# Altium schematic symbol library SJR-BTM875-E.SchLib: 1 symbol
Pins are listed as number, name and electrical type; pins without a type are passive.

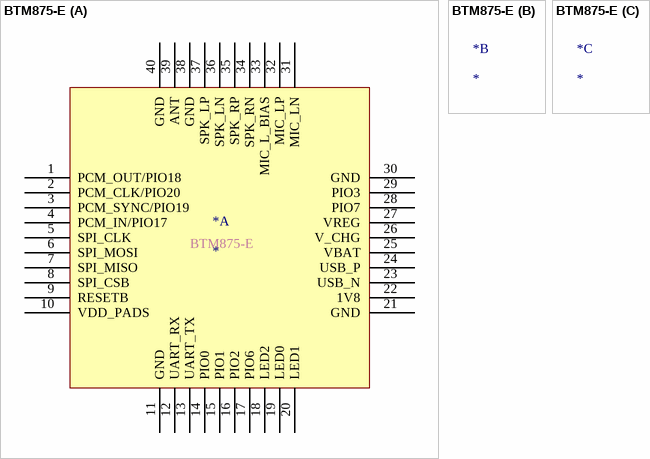
[diagram p0: symbol BTM875-E]

## BTM875-E
designator *
footprint LCCS100P1150X1150X200-40N (LCC, 40-Pins, Body 11.50x11.50mmx2.00mm, Pitch 1.00mm, IPC Medium Density)
part A pins: 1 PCM_OUT/PIO18, 2 PCM_CLK/PIO20, 3 PCM_SYNC/PIO19, 4 PCM_IN/PIO17, 5 SPI_CLK, 6 SPI_MOSI, 7 SPI_MISO, 8 SPI_CSB, 9 RESETB, 10 VDD_PADS, 11 GND, 12 UART_RX, 13 UART_TX, 14 PIO0, 15 PIO1, 16 PIO2, 17 PIO6, 18 LED2, 19 LED0, 20 LED1, 21 GND, 22 1V8, 23 USB_N, 24 USB_P, 25 VBAT, 26 V_CHG, 27 VREG, 28 PIO7, 29 PIO3, 30 GND, 31 MIC_LN, 32 MIC_LP, 33 MIC_L_BIAS, 34 SPK_RN, 35 SPK_RP, 36 SPK_LN, 37 SPK_LP, 38 GND, 39 ANT, 40 GND